# Altium integrated library Coiltronics Passive Transformer.IntLib: 204 symbols (part 3 of 4)
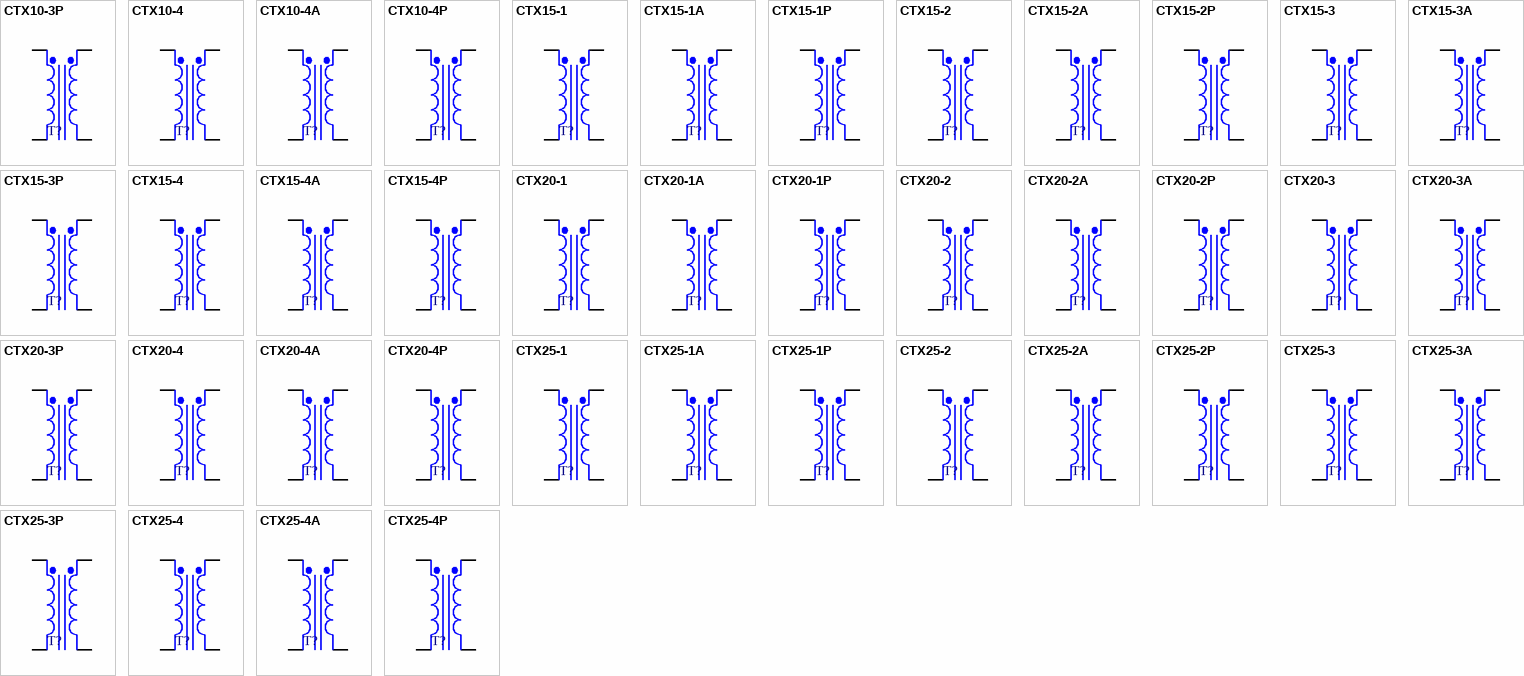
[diagram p7: symbols CTX10-3P to CTX25-4P]

## CTX25-4A
designator T?
Surface Mount 1:1 Transformer, 1.51A RMS Series Current, Octa-Pac Plus; Parallel_OCL: 25.14uH ± 25%; Parallel_I(Sat): 2.65A (Peak); Parallel_I(RMS): 3.02A DC; Parallel_DCR: 0.048 Ohms (Typical @ 20°C); Series_OCL: 100.51uH ± 25%; Series_I(Sat): 1.32uH (Minimum); Series_I(RMS): 1.51A DC; Series_DCR: 0.193 Ohms (Typical @ 20°C); Published: 17-Jul-2002; DatasheetDocument: Dec-2001; PackageDocument: Dec-2001; PackageReference: OPA4; Publisher: Altium Limited; ComponentLink1Description: Manufacturer Link; ComponentLink1URL: http://www.cooperet.com/; ComponentLink2Description: Datasheet; ComponentLink2URL: http://www.cooperet.com/pdfs_html/EconoPacOctaPacOctaPacPlus_Specs.pdf
footprint OPA4 (SM Inductor/Transformer; 4 Leads; Body 11.43 x 11.43 x 6.35 mm (LxWxH))
pins: 1 Pri+, 2 Pri-, 3 Sec-, 4 Sec+

## CTX25-4P
designator T?
Surface Mount 1:1 Transformer, 0.80A DC Series Full Load Current, Econo-Pac; Parallel_OCL: 25.65uH ± 20%; Parallel_L(Full_Load): 17.17uH (Minimum); Parallel_I(Full_Load): 1.60A DC; Parallel_DCR: 0.115 Ohms (Maximum); Series_OCL: 102.60uH ± 20%; Series_L(Full_Load): 68.68uH (Minimum); Series_I(Full_Load): 0.8A DC; Series_DCR: 0.461 Ohms (Maximum); Published: 17-Jul-2002; DatasheetDocument: Jan-2002; PackageDocument: Dec-2001; PackageReference: OPA4; Publisher: Altium Limited; ComponentLink1Description: Manufacturer Link; ComponentLink1URL: http://www.cooperet.com/; ComponentLink2Description: Datasheet; ComponentLink2URL: http://www.cooperet.com/pdfs_html/EconoPacOctaPacOctaPacPlus_Specs.pdf
footprint OPA4 (SM Inductor/Transformer; 4 Leads; Body 11.43 x 11.43 x 6.35 mm (LxWxH))
pins: 1 Pri+, 2 Pri-, 3 Sec-, 4 Sec+

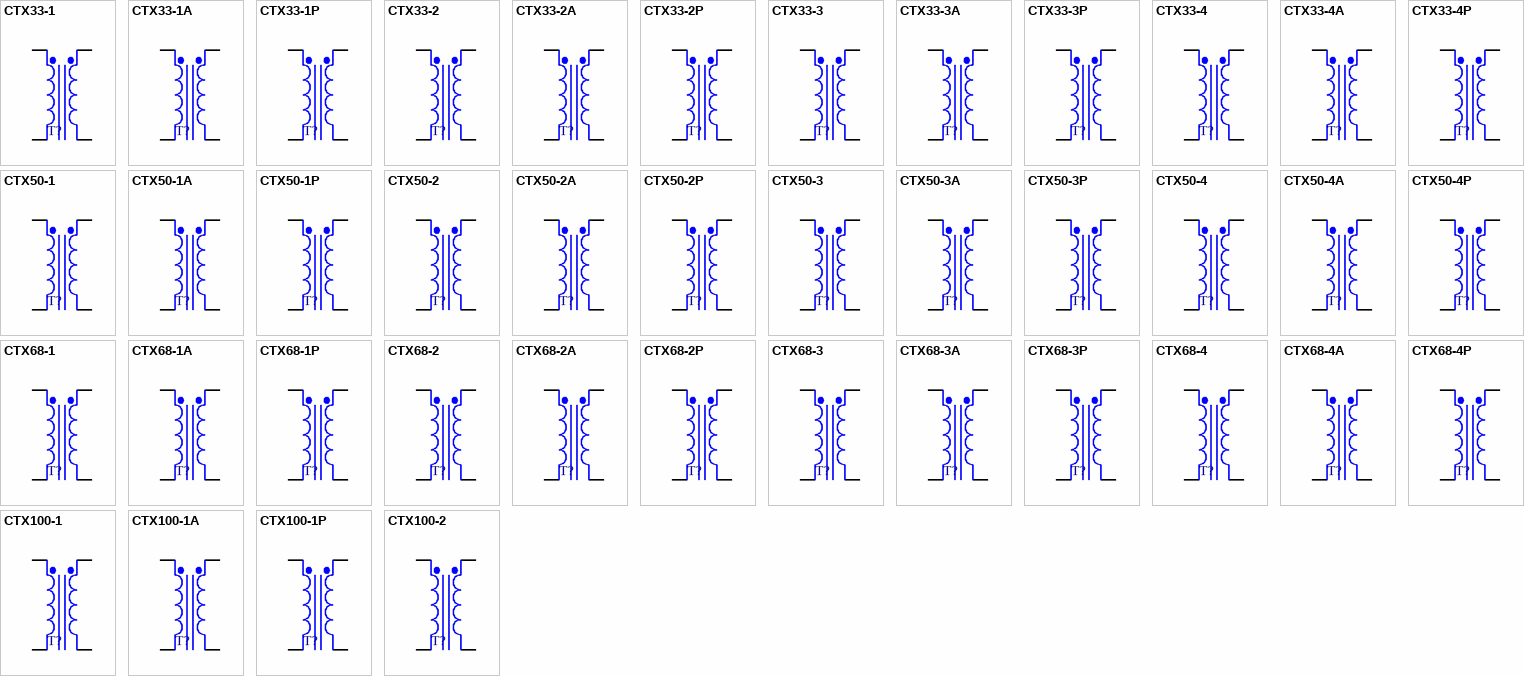
[diagram p3: symbols CTX33-1 to CTX100-2]

## CTX33-1
designator T?
Surface Mount 1:1 Transformer, 0.36A DC Series Full Load Current, Octa-Pac; Parallel_OCL: 32.40uH ± 20%; Parallel_L(Full_Load): 19.84uH (Minimum); Parallel_I(Full_Load): 0.72A DC; Parallel_DCR: 0.293 Ohms (Maximum); Series_OCL: 129.60uH ± 20%; Series_L(Full_Load): 79.37uH (Minimum); Series_DCR: 1.171 Ohms (Maximum); Published: 17-Jul-2002; DatasheetDocument: Jan-2002; PackageDocument: Dec-2001; PackageReference: OPA1; Publisher: Altium Limited; Series_I(Full_Load): 0.36A DC; ComponentLink1Description: Manufacturer Link; ComponentLink1URL: http://www.cooperet.com/; ComponentLink2Description: Datasheet; ComponentLink2URL: http://www.cooperet.com/pdfs_html/EconoPacOctaPacOctaPacPlus_Specs.pdf
footprint OPA1 (SM Inductor/Transformer; 4 Leads; Body 8.89 x 8.89 x 4.19 mm (LxWxH))
pins: 1 Pri+, 2 Pri-, 3 Sec-, 4 Sec+

## CTX33-1A
designator T?
Surface Mount 1:1 Transformer, 0.61A RMS Series Current, Octa-Pac Plus; Parallel_OCL: 34.26uH ± 25%; Parallel_I(Sat): 1.39A (Peak); Parallel_I(RMS): 1.22A DC; Parallel_DCR: 0.249 Ohms (Typical @ 20°C); Series_OCL: 137.10uH ± 25%; Series_I(Sat): 0.69uH (Minimum); Series_I(RMS): 0.61A DC; Series_DCR: 0.995 Ohms (Typical @ 20°C); Published: 17-Jul-2002; DatasheetDocument: Dec-2001; PackageDocument: Dec-2001; PackageReference: OPA1; Publisher: Altium Limited; ComponentLink1Description: Manufacturer Link; ComponentLink1URL: http://www.cooperet.com/; ComponentLink2Description: Datasheet; ComponentLink2URL: http://www.cooperet.com/pdfs_html/EconoPacOctaPacOctaPacPlus_Specs.pdf
footprint OPA1 (SM Inductor/Transformer; 4 Leads; Body 8.89 x 8.89 x 4.19 mm (LxWxH))
pins: 1 Pri+, 2 Pri-, 3 Sec-, 4 Sec+

## CTX33-1P
designator T?
Surface Mount 1:1 Transformer, 0.40A DC Series Full Load Current, Econo-Pac; Parallel_OCL: 32.33uH ± 20%; Parallel_L(Full_Load): 22.27uH (Minimum); Parallel_I(Full_Load): 0.80A DC; Parallel_DCR: 0.25 Ohms (Maximum); Series_OCL: 129.32uH ± 20%; Series_L(Full_Load): 89.06uH (Minimum); Series_I(Full_Load): 0.4A DC; Series_DCR: 1.001 Ohms (Maximum); Published: 17-Jul-2002; DatasheetDocument: Jan-2002; PackageDocument: Dec-2001; PackageReference: OPA1; Publisher: Altium Limited; ComponentLink1Description: Manufacturer Link; ComponentLink1URL: http://www.cooperet.com/; ComponentLink2Description: Datasheet; ComponentLink2URL: http://www.cooperet.com/pdfs_html/EconoPacOctaPacOctaPacPlus_Specs.pdf
footprint OPA1 (SM Inductor/Transformer; 4 Leads; Body 8.89 x 8.89 x 4.19 mm (LxWxH))
pins: 1 Pri+, 2 Pri-, 3 Sec-, 4 Sec+

## CTX33-2
designator T?
Surface Mount 1:1 Transformer, 0.70A DC Series Full Load Current, Octa-Pac; Parallel_OCL: 31.77uH ± 20%; Parallel_L(Full_Load): 15.9uH (Minimum); Parallel_I(Full_Load): 1.40A DC; Parallel_DCR: 0.105 Ohms (Maximum); Series_OCL: 127.09uH ± 20%; Series_L(Full_Load): 63.59uH (Minimum); Series_I(Full_Load): 0.7A DC; Series_DCR: 0.42 Ohms (Maximum); Published: 17-Jul-2002; DatasheetDocument: Jan-2002; PackageDocument: Dec-2001; PackageReference: OPA2; Publisher: Altium Limited; ComponentLink1Description: Manufacturer Link; ComponentLink1URL: http://www.cooperet.com/; ComponentLink2Description: Datasheet; ComponentLink2URL: http://www.cooperet.com/pdfs_html/EconoPacOctaPacOctaPacPlus_Specs.pdf
footprint OPA2 (SM Inductor/Transformer; 4 Leads; Body 8.89 x 8.89 x 5.97 mm (LxWxH))
pins: 1 Pri+, 2 Pri-, 3 Sec-, 4 Sec+

## CTX33-2A
designator T?
Surface Mount 1:1 Transformer, 0.78A RMS Series Current, Octa-Pac Plus; Parallel_OCL: 34.84uH ± 25%; Parallel_I(Sat): 1.79A (Peak); Parallel_I(RMS): 1.56A DC; Parallel_DCR: 0.162 Ohms (Typical @ 20°C); Series_OCL: 139.40uH ± 25%; Series_I(Sat): 0.89uH (Minimum); Series_I(RMS): 0.78A DC; Series_DCR: 0.649 Ohms (Typical @ 20°C); Published: 17-Jul-2002; DatasheetDocument: Dec-2001; PackageDocument: Dec-2001; PackageReference: OPA2; Publisher: Altium Limited; ComponentLink1Description: Manufacturer Link; ComponentLink1URL: http://www.cooperet.com/; ComponentLink2Description: Datasheet; ComponentLink2URL: http://www.cooperet.com/pdfs_html/EconoPacOctaPacOctaPacPlus_Specs.pdf
footprint OPA2 (SM Inductor/Transformer; 4 Leads; Body 8.89 x 8.89 x 5.97 mm (LxWxH))
pins: 1 Pri+, 2 Pri-, 3 Sec-, 4 Sec+

## CTX33-2P
designator T?
Surface Mount 1:1 Transformer, 0.65A DC Series Full Load Current, Econo-Pac; Parallel_OCL: 32.67uH ± 20%; Parallel_L(Full_Load): 21.29uH (Minimum); Parallel_I(Full_Load): 1.30A DC; Parallel_DCR: 0.126 Ohms (Maximum); Series_OCL: 130.7uH ± 20%; Series_L(Full_Load): 85.17uH (Minimum); Series_DCR: 0.503 Ohms (Maximum); Published: 17-Jul-2002; DatasheetDocument: Jan-2002; PackageDocument: Dec-2001; PackageReference: OPA2; Publisher: Altium Limited; Series_I(Full_Load): 0.65A DC; ComponentLink1Description: Manufacturer Link; ComponentLink1URL: http://www.cooperet.com/; ComponentLink2Description: Datasheet; ComponentLink2URL: http://www.cooperet.com/pdfs_html/EconoPacOctaPacOctaPacPlus_Specs.pdf
footprint OPA2 (SM Inductor/Transformer; 4 Leads; Body 8.89 x 8.89 x 5.97 mm (LxWxH))
pins: 1 Pri+, 2 Pri-, 3 Sec-, 4 Sec+

## CTX33-3
designator T?
Surface Mount 1:1 Transformer, 0.48A DC Series Full Load Current, Octa-Pac; Parallel_OCL: 32.86uH ± 20%; Parallel_L(Full_Load): 19.69uH (Minimum); Parallel_I(Full_Load): 0.96A DC; Parallel_DCR: 0.083 Ohms (Maximum); Series_OCL: 131.42uH ± 20%; Series_L(Full_Load): 78.77uH (Minimum); Series_DCR: 0.331 Ohms (Maximum); Published: 17-Jul-2002; DatasheetDocument: Jan-2002; PackageDocument: Dec-2001; PackageReference: OPA3; Publisher: Altium Limited; Series_I(Full_Load): 0.48A DC; ComponentLink1Description: Manufacturer Link; ComponentLink1URL: http://www.cooperet.com/; ComponentLink2Description: Datasheet; ComponentLink2URL: http://www.cooperet.com/pdfs_html/EconoPacOctaPacOctaPacPlus_Specs.pdf
footprint OPA3 (SM Inductor/Transformer; 4 Leads; Body 11.43 x 11.43 x 4.83 mm (LxWxH))
pins: 1 Pri+, 2 Pri-, 3 Sec-, 4 Sec+

## CTX33-3A
designator T?
Surface Mount 1:1 Transformer, 0.96A RMS Series Current, Octa-Pac Plus; Parallel_OCL: 33.71uH ± 25%; Parallel_I(Sat): 1.61A (Peak); Parallel_I(RMS): 1.93A DC; Parallel_DCR: 0.112 Ohms (Typical @ 20°C); Series_OCL: 134.80uH ± 25%; Series_I(Sat): 0.80uH (Minimum); Series_I(RMS): 0.96A DC; Series_DCR: 0.449 Ohms (Typical @ 20°C); Published: 17-Jul-2002; DatasheetDocument: Dec-2001; PackageDocument: Dec-2001; PackageReference: OPA3; Publisher: Altium Limited; ComponentLink1Description: Manufacturer Link; ComponentLink1URL: http://www.cooperet.com/; ComponentLink2Description: Datasheet; ComponentLink2URL: http://www.cooperet.com/pdfs_html/EconoPacOctaPacOctaPacPlus_Specs.pdf
footprint OPA3 (SM Inductor/Transformer; 4 Leads; Body 11.43 x 11.43 x 4.83 mm (LxWxH))
pins: 1 Pri+, 2 Pri-, 3 Sec-, 4 Sec+

## CTX33-3P
designator T?
Surface Mount 1:1 Transformer, 0.65A DC Series Full Load Current, Econo-Pac; Parallel_OCL: 32.63uH ± 20%; Parallel_L(Full_Load): 20.32uH (Minimum); Parallel_I(Full_Load): 1.30A DC; Parallel_DCR: 0.146 Ohms (Maximum); Series_OCL: 130.54uH ± 20%; Series_L(Full_Load): 81.3uH (Minimum); Series_DCR: 0.571 Ohms (Maximum); Published: 17-Jul-2002; DatasheetDocument: Jan-2002; PackageDocument: Dec-2001; PackageReference: OPA3; Publisher: Altium Limited; Series_I(Full_Load): 0.65A DC; ComponentLink1Description: Manufacturer Link; ComponentLink1URL: http://www.cooperet.com/; ComponentLink2Description: Datasheet; ComponentLink2URL: http://www.cooperet.com/pdfs_html/EconoPacOctaPacOctaPacPlus_Specs.pdf
footprint OPA3 (SM Inductor/Transformer; 4 Leads; Body 11.43 x 11.43 x 4.83 mm (LxWxH))
pins: 1 Pri+, 2 Pri-, 3 Sec-, 4 Sec+

## CTX33-4
designator T?
Surface Mount 1:1 Transformer, 0.90A DC Series Full Load Current, Octa-Pac; Parallel_OCL: 33.12uH ± 20%; Parallel_L(Full_Load): 16.82uH (Minimum); Parallel_I(Full_Load): 1.80A DC; Parallel_DCR: 0.072 Ohms (Maximum); Series_OCL: 132.50uH ± 20%; Series_L(Full_Load): 67.27uH (Minimum); Series_I(Full_Load): 0.9A DC; Series_DCR: 0.287 Ohms (Maximum); Published: 17-Jul-2002; DatasheetDocument: Jan-2002; PackageDocument: Dec-2001; PackageReference: OPA4; Publisher: Altium Limited; ComponentLink1Description: Manufacturer Link; ComponentLink1URL: http://www.cooperet.com/; ComponentLink2Description: Datasheet; ComponentLink2URL: http://www.cooperet.com/pdfs_html/EconoPacOctaPacOctaPacPlus_Specs.pdf
footprint OPA4 (SM Inductor/Transformer; 4 Leads; Body 11.43 x 11.43 x 6.35 mm (LxWxH))
pins: 1 Pri+, 2 Pri-, 3 Sec-, 4 Sec+

## CTX33-4A
designator T?
Surface Mount 1:1 Transformer, 1.25A RMS Series Current, Octa-Pac Plus; Parallel_OCL: 34.80uH ± 25%; Parallel_I(Sat): 2.25A (Peak); Parallel_I(RMS): 2.49A DC; Parallel_DCR: 0.071 Ohms (Typical @ 20°C); Series_OCL: 139.20uH ± 25%; Series_I(Sat): 1.13uH (Minimum); Series_I(RMS): 1.25A DC; Series_DCR: 0.283 Ohms (Typical @ 20°C); Published: 17-Jul-2002; DatasheetDocument: Dec-2001; PackageDocument: Dec-2001; PackageReference: OPA4; Publisher: Altium Limited; ComponentLink1Description: Manufacturer Link; ComponentLink1URL: http://www.cooperet.com/; ComponentLink2Description: Datasheet; ComponentLink2URL: http://www.cooperet.com/pdfs_html/EconoPacOctaPacOctaPacPlus_Specs.pdf
footprint OPA4 (SM Inductor/Transformer; 4 Leads; Body 11.43 x 11.43 x 6.35 mm (LxWxH))
pins: 1 Pri+, 2 Pri-, 3 Sec-, 4 Sec+

## CTX33-4P
designator T?
Surface Mount 1:1 Transformer, 0.65A DC Series Full Load Current, Econo-Pac; Parallel_OCL: 33.21uH ± 20%; Parallel_L(Full_Load): 22.93uH (Minimum); Parallel_I(Full_Load): 1.30A DC; Parallel_DCR: 0.166 Ohms (Maximum); Series_OCL: 132.86uH ± 20%; Series_L(Full_Load): 91.72uH (Minimum); Series_DCR: 0.662 Ohms (Maximum); Published: 17-Jul-2002; DatasheetDocument: Jan-2002; PackageDocument: Dec-2001; PackageReference: OPA4; Publisher: Altium Limited; Series_I(Full_Load): 0.65A DC; ComponentLink1Description: Manufacturer Link; ComponentLink1URL: http://www.cooperet.com/; ComponentLink2Description: Datasheet; ComponentLink2URL: http://www.cooperet.com/pdfs_html/EconoPacOctaPacOctaPacPlus_Specs.pdf
footprint OPA4 (SM Inductor/Transformer; 4 Leads; Body 11.43 x 11.43 x 6.35 mm (LxWxH))
pins: 1 Pri+, 2 Pri-, 3 Sec-, 4 Sec+

## CTX50-1
designator T?
Surface Mount 1:1 Transformer, 0.32A DC Series Full Load Current, Octa-Pac; Parallel_OCL: 50.63uH ± 20%; Parallel_L(Full_Load): 29.34uH (Minimum); Parallel_I(Full_Load): 0.64A DC; Parallel_DCR: 0.365 Ohms (Maximum); Series_OCL: 202.50uH ± 20%; Series_L(Full_Load): 117.38uH (Minimum); Series_DCR: 1.461 Ohms (Maximum); Published: 17-Jul-2002; DatasheetDocument: Jan-2002; PackageDocument: Dec-2001; PackageReference: OPA1; Publisher: Altium Limited; Series_I(Full_Load): 0.32A DC; ComponentLink1Description: Manufacturer Link; ComponentLink1URL: http://www.cooperet.com/; ComponentLink2Description: Datasheet; ComponentLink2URL: http://www.cooperet.com/pdfs_html/EconoPacOctaPacOctaPacPlus_Specs.pdf
footprint OPA1 (SM Inductor/Transformer; 4 Leads; Body 8.89 x 8.89 x 4.19 mm (LxWxH))
pins: 1 Pri+, 2 Pri-, 3 Sec-, 4 Sec+

## CTX50-1A
designator T?
Surface Mount 1:1 Transformer, 0.49A RMS Series Current, Octa-Pac Plus; Parallel_OCL: 51.18uH ± 25%; Parallel_I(Sat): 1.14A (Peak); Parallel_I(RMS): 0.99A DC; Parallel_DCR: 0.381 Ohms (Typical @ 20°C); Series_OCL: 204.70uH ± 25%; Series_I(Sat): 0.57uH (Minimum); Series_I(RMS): 0.49A DC; Series_DCR: 1.524 Ohms (Typical @ 20°C); Published: 17-Jul-2002; DatasheetDocument: Dec-2001; PackageDocument: Dec-2001; PackageReference: OPA1; Publisher: Altium Limited; ComponentLink1Description: Manufacturer Link; ComponentLink1URL: http://www.cooperet.com/; ComponentLink2Description: Datasheet; ComponentLink2URL: http://www.cooperet.com/pdfs_html/EconoPacOctaPacOctaPacPlus_Specs.pdf
footprint OPA1 (SM Inductor/Transformer; 4 Leads; Body 8.89 x 8.89 x 4.19 mm (LxWxH))
pins: 1 Pri+, 2 Pri-, 3 Sec-, 4 Sec+

## CTX50-1P
designator T?
Surface Mount 1:1 Transformer, 0.35A DC Series Full Load Current, Econo-Pac; Parallel_OCL: 50.52uH ± 20%; Parallel_L(Full_Load): 33.57uH (Minimum); Parallel_I(Full_Load): 0.70A DC; Parallel_DCR: 0.316 Ohms (Maximum); Series_OCL: 202.07uH ± 20%; Series_L(Full_Load): 134.27uH (Minimum); Series_DCR: 1.263 Ohms (Maximum); Published: 17-Jul-2002; DatasheetDocument: Jan-2002; PackageDocument: Dec-2001; PackageReference: OPA1; Publisher: Altium Limited; Series_I(Full_Load): 0.35A DC; ComponentLink1Description: Manufacturer Link; ComponentLink1URL: http://www.cooperet.com/; ComponentLink2Description: Datasheet; ComponentLink2URL: http://www.cooperet.com/pdfs_html/EconoPacOctaPacOctaPacPlus_Specs.pdf
footprint OPA1 (SM Inductor/Transformer; 4 Leads; Body 8.89 x 8.89 x 4.19 mm (LxWxH))
pins: 1 Pri+, 2 Pri-, 3 Sec-, 4 Sec+

## CTX50-2
designator T?
Surface Mount 1:1 Transformer, 0.46A DC Series Full Load Current, Octa-Pac; Parallel_OCL: 51.18uH ± 20%; Parallel_L(Full_Load): 28.79uH (Minimum); Parallel_I(Full_Load): 0.92A DC; Parallel_DCR: 0.21 Ohms (Maximum); Series_OCL: 204.73uH ± 20%; Series_L(Full_Load): 115.16uH (Minimum); Series_DCR: 0.839 Ohms (Maximum); Published: 17-Jul-2002; DatasheetDocument: Jan-2002; PackageDocument: Dec-2001; PackageReference: OPA2; Publisher: Altium Limited; Series_I(Full_Load): 0.46A DC; ComponentLink1Description: Manufacturer Link; ComponentLink1URL: http://www.cooperet.com/; ComponentLink2Description: Datasheet; ComponentLink2URL: http://www.cooperet.com/pdfs_html/EconoPacOctaPacOctaPacPlus_Specs.pdf
footprint OPA2 (SM Inductor/Transformer; 4 Leads; Body 8.89 x 8.89 x 5.97 mm (LxWxH))
pins: 1 Pri+, 2 Pri-, 3 Sec-, 4 Sec+

## CTX50-2A
designator T?
Surface Mount 1:1 Transformer, 0.64A RMS Series Current, Octa-Pac Plus; Parallel_OCL: 49.38uH ± 25%; Parallel_I(Sat): 1.50A (Peak); Parallel_I(RMS): 1.28A DC; Parallel_DCR: 0.240 Ohms (Typical @ 20°C); Series_OCL: 197.50uH ± 25%; Series_I(Sat): 0.75uH (Minimum); Series_I(RMS): 0.64A DC; Series_DCR: 0.961 Ohms (Typical @ 20°C); Published: 17-Jul-2002; DatasheetDocument: Dec-2001; PackageDocument: Dec-2001; PackageReference: OPA2; Publisher: Altium Limited; ComponentLink1Description: Manufacturer Link; ComponentLink1URL: http://www.cooperet.com/; ComponentLink2Description: Datasheet; ComponentLink2URL: http://www.cooperet.com/pdfs_html/EconoPacOctaPacOctaPacPlus_Specs.pdf
footprint OPA2 (SM Inductor/Transformer; 4 Leads; Body 8.89 x 8.89 x 5.97 mm (LxWxH))
pins: 1 Pri+, 2 Pri-, 3 Sec-, 4 Sec+

## CTX50-2P
designator T?
Surface Mount 1:1 Transformer, 0.41A DC Series Full Load Current, Econo-Pac; Parallel_OCL: 49.10uH ± 20%; Parallel_L(Full_Load): 35.31uH (Minimum); Parallel_I(Full_Load): 0.82A DC; Parallel_DCR: 0.305 Ohms (Maximum); Series_OCL: 196.38uH ± 20%; Series_L(Full_Load): 141.24uH (Minimum); Series_DCR: 1.221 Ohms (Maximum); Published: 17-Jul-2002; DatasheetDocument: Jan-2002; PackageDocument: Dec-2001; PackageReference: OPA2; Publisher: Altium Limited; Series_I(Full_Load): 0.41A DC; ComponentLink1Description: Manufacturer Link; ComponentLink1URL: http://www.cooperet.com/; ComponentLink2Description: Datasheet; ComponentLink2URL: http://www.cooperet.com/pdfs_html/EconoPacOctaPacOctaPacPlus_Specs.pdf
footprint OPA2 (SM Inductor/Transformer; 4 Leads; Body 8.89 x 8.89 x 5.97 mm (LxWxH))
pins: 1 Pri+, 2 Pri-, 3 Sec-, 4 Sec+

## CTX50-3
designator T?
Surface Mount 1:1 Transformer, 0.47A DC Series Full Load Current, Octa-Pac; Parallel_OCL: 50.78uH ± 20%; Parallel_L(Full_Load): 27.18uH (Minimum); Parallel_I(Full_Load): 0.94A DC; Parallel_DCR: 0.239 Ohms (Maximum); Series_OCL: 203.14uH ± 20%; Series_L(Full_Load): 108.71uH (Minimum); Series_DCR: 0.956 Ohms (Maximum); Published: 17-Jul-2002; DatasheetDocument: Jan-2002; PackageDocument: Dec-2001; PackageReference: OPA3; Publisher: Altium Limited; Series_I(Full_Load): 0.47A DC; ComponentLink1Description: Manufacturer Link; ComponentLink1URL: http://www.cooperet.com/; ComponentLink2Description: Datasheet; ComponentLink2URL: http://www.cooperet.com/pdfs_html/EconoPacOctaPacOctaPacPlus_Specs.pdf
footprint OPA3 (SM Inductor/Transformer; 4 Leads; Body 11.43 x 11.43 x 4.83 mm (LxWxH))
pins: 1 Pri+, 2 Pri-, 3 Sec-, 4 Sec+

## CTX50-3A
designator T?
Surface Mount 1:1 Transformer, 0.78A RMS Series Current, Octa-Pac Plus; Parallel_OCL: 49.71uH ± 25%; Parallel_I(Sat): 1.32A (Peak); Parallel_I(RMS): 1.56A DC; Parallel_DCR: 0.171 Ohms (Typical @ 20°C); Series_OCL: 198.80uH ± 25%; Series_I(Sat): 0.66uH (Minimum); Series_I(RMS): 0.78A DC; Series_DCR: 0.686 Ohms (Typical @ 20°C); Published: 17-Jul-2002; DatasheetDocument: Dec-2001; PackageDocument: Dec-2001; PackageReference: OPA3; Publisher: Altium Limited; ComponentLink1Description: Manufacturer Link; ComponentLink1URL: http://www.cooperet.com/; ComponentLink2Description: Datasheet; ComponentLink2URL: http://www.cooperet.com/pdfs_html/EconoPacOctaPacOctaPacPlus_Specs.pdf
footprint OPA3 (SM Inductor/Transformer; 4 Leads; Body 11.43 x 11.43 x 4.83 mm (LxWxH))
pins: 1 Pri+, 2 Pri-, 3 Sec-, 4 Sec+

## CTX50-3P
designator T?
Surface Mount 1:1 Transformer, 0.46A DC Series Full Load Current, Econo-Pac; Parallel_OCL: 50.02uH ± 20%; Parallel_L(Full_Load): 33.06uH (Minimum); Parallel_I(Full_Load): 0.92A DC; Parallel_DCR: 0.277 Ohms (Maximum); Series_OCL: 200.10uH ± 20%; Series_L(Full_Load): 132.24uH (Minimum); Series_DCR: 1.108 Ohms (Maximum); Published: 17-Jul-2002; DatasheetDocument: Jan-2002; PackageDocument: Dec-2001; PackageReference: OPA3; Publisher: Altium Limited; Series_I(Full_Load): 0.46A DC; ComponentLink1Description: Manufacturer Link; ComponentLink1URL: http://www.cooperet.com/; ComponentLink2Description: Datasheet; ComponentLink2URL: http://www.cooperet.com/pdfs_html/EconoPacOctaPacOctaPacPlus_Specs.pdf
footprint OPA3 (SM Inductor/Transformer; 4 Leads; Body 11.43 x 11.43 x 4.83 mm (LxWxH))
pins: 1 Pri+, 2 Pri-, 3 Sec-, 4 Sec+

## CTX50-4
designator T?
Surface Mount 1:1 Transformer, 0.75A DC Series Full Load Current, Octa-Pac; Parallel_OCL: 50.18uH ± 20%; Parallel_L(Full_Load): 25.03uH (Minimum); Parallel_I(Full_Load): 1.50A DC; Parallel_DCR: 0.111 Ohms (Maximum); Series_OCL: 200.70uH ± 20%; Series_L(Full_Load): 100.11uH (Minimum); Series_DCR: 0.443 Ohms (Maximum); Published: 17-Jul-2002; DatasheetDocument: Jan-2002; PackageDocument: Dec-2001; PackageReference: OPA4; Publisher: Altium Limited; Series_I(Full_Load): 0.75A DC; ComponentLink1Description: Manufacturer Link; ComponentLink1URL: http://www.cooperet.com/; ComponentLink2Description: Datasheet; ComponentLink2URL: http://www.cooperet.com/pdfs_html/EconoPacOctaPacOctaPacPlus_Specs.pdf
footprint OPA4 (SM Inductor/Transformer; 4 Leads; Body 11.43 x 11.43 x 6.35 mm (LxWxH))
pins: 1 Pri+, 2 Pri-, 3 Sec-, 4 Sec+

## CTX50-4A
designator T?
Surface Mount 1:1 Transformer, 1.03A RMS Series Current, Octa-Pac Plus; Parallel_OCL: 50.11uH ± 25%; Parallel_I(Sat): 1.88A (Peak); Parallel_I(RMS): 2.05A DC; Parallel_DCR: 0.104 Ohms (Typical @ 20°C); Series_OCL: 200.40uH ± 25%; Series_I(Sat): 0.94uH (Minimum); Series_I(RMS): 1.03A DC; Series_DCR: 0.418 Ohms (Typical @ 20°C); Published: 17-Jul-2002; DatasheetDocument: Dec-2001; PackageDocument: Dec-2001; PackageReference: OPA4; Publisher: Altium Limited; ComponentLink1Description: Manufacturer Link; ComponentLink1URL: http://www.cooperet.com/; ComponentLink2Description: Datasheet; ComponentLink2URL: http://www.cooperet.com/pdfs_html/EconoPacOctaPacOctaPacPlus_Specs.pdf
footprint OPA4 (SM Inductor/Transformer; 4 Leads; Body 11.43 x 11.43 x 6.35 mm (LxWxH))
pins: 1 Pri+, 2 Pri-, 3 Sec-, 4 Sec+

## CTX50-4P
designator T?
Surface Mount 1:1 Transformer, 0.60A DC Series Full Load Current, Econo-Pac; Parallel_OCL: 48.80uH ± 20%; Parallel_L(Full_Load): 32.21uH (Minimum); Parallel_I(Full_Load): 1.20A DC; Parallel_DCR: 0.201 Ohms (Maximum); Series_OCL: 195.20uH ± 20%; Series_L(Full_Load): 128.83uH (Minimum); Series_I(Full_Load): 0.6A DC; Series_DCR: 0.805 Ohms (Maximum); Published: 17-Jul-2002; DatasheetDocument: Jan-2002; PackageDocument: Dec-2001; PackageReference: OPA4; Publisher: Altium Limited; ComponentLink1Description: Manufacturer Link; ComponentLink1URL: http://www.cooperet.com/; ComponentLink2Description: Datasheet; ComponentLink2URL: http://www.cooperet.com/pdfs_html/EconoPacOctaPacOctaPacPlus_Specs.pdf
footprint OPA4 (SM Inductor/Transformer; 4 Leads; Body 11.43 x 11.43 x 6.35 mm (LxWxH))
pins: 1 Pri+, 2 Pri-, 3 Sec-, 4 Sec+

## CTX68-1
designator T?
Surface Mount 1:1 Transformer, 0.27A DC Series Full Load Current, Octa-Pac; Parallel_OCL: 67.60uH ± 20%; Parallel_L(Full_Load): 39.73uH (Minimum); Parallel_I(Full_Load): 0.54A DC; Parallel_DCR: 0.516 Ohms (Maximum); Series_OCL: 270.40uH ± 20%; Series_L(Full_Load): 158.92uH (Minimum); Series_DCR: 2.064 Ohms (Maximum); Published: 17-Jul-2002; DatasheetDocument: Jan-2002; PackageDocument: Dec-2001; PackageReference: OPA1; Publisher: Altium Limited; Series_I(Full_Load): 0.27A DC; ComponentLink1Description: Manufacturer Link; ComponentLink1URL: http://www.cooperet.com/; ComponentLink2Description: Datasheet; ComponentLink2URL: http://www.cooperet.com/pdfs_html/EconoPacOctaPacOctaPacPlus_Specs.pdf
footprint OPA1 (SM Inductor/Transformer; 4 Leads; Body 8.89 x 8.89 x 4.19 mm (LxWxH))
pins: 1 Pri+, 2 Pri-, 3 Sec-, 4 Sec+

## CTX68-1A
designator T?
Surface Mount 1:1 Transformer, 0.46A RMS Series Current, Octa-Pac Plus; Parallel_OCL: 67.87uH ± 25%; Parallel_I(Sat): 0.99A (Peak); Parallel_I(RMS): 0.92A DC; Parallel_DCR: 0.437 Ohms (Typical @ 20°C); Series_OCL: 271.50uH ± 25%; Series_I(Sat): 0.49uH (Minimum); Series_I(RMS): 0.46A DC; Series_DCR: 1.749 Ohms (Typical @ 20°C); Published: 17-Jul-2002; DatasheetDocument: Dec-2001; PackageDocument: Dec-2001; PackageReference: OPA1; Publisher: Altium Limited; ComponentLink1Description: Manufacturer Link; ComponentLink1URL: http://www.cooperet.com/; ComponentLink2Description: Datasheet; ComponentLink2URL: http://www.cooperet.com/pdfs_html/EconoPacOctaPacOctaPacPlus_Specs.pdf
footprint OPA1 (SM Inductor/Transformer; 4 Leads; Body 8.89 x 8.89 x 4.19 mm (LxWxH))
pins: 1 Pri+, 2 Pri-, 3 Sec-, 4 Sec+

## CTX68-1P
designator T?
Surface Mount 1:1 Transformer, 0.33A DC Series Full Load Current, Econo-Pac; Parallel_OCL: 68.40uH ± 20%; Parallel_L(Full_Load): 43.65uH (Minimum); Parallel_I(Full_Load): 0.66A DC; Parallel_DCR: 0.373 Ohms (Maximum); Series_OCL: 273.61uH ± 20%; Series_L(Full_Load): 174.61uH (Minimum); Series_DCR: 1.49 Ohms (Maximum); Published: 17-Jul-2002; DatasheetDocument: Jan-2002; PackageDocument: Dec-2001; PackageReference: OPA1; Publisher: Altium Limited; Series_I(Full_Load): 0.33A DC; ComponentLink1Description: Manufacturer Link; ComponentLink1URL: http://www.cooperet.com/; ComponentLink2Description: Datasheet; ComponentLink2URL: http://www.cooperet.com/pdfs_html/EconoPacOctaPacOctaPacPlus_Specs.pdf
footprint OPA1 (SM Inductor/Transformer; 4 Leads; Body 8.89 x 8.89 x 4.19 mm (LxWxH))
pins: 1 Pri+, 2 Pri-, 3 Sec-, 4 Sec+

## CTX68-2
designator T?
Surface Mount 1:1 Transformer, 0.39A DC Series Full Load Current, Octa-Pac; Parallel_OCL: 67.87uH ± 20%; Parallel_L(Full_Load): 38.71uH (Minimum); Parallel_I(Full_Load): 0.78A DC; Parallel_DCR: 0.303 Ohms (Maximum); Series_OCL: 271.47uH ± 20%; Series_L(Full_Load): 154.83uH (Minimum); Series_DCR: 1.214 Ohms (Maximum); Published: 17-Jul-2002; DatasheetDocument: Jan-2002; PackageDocument: Dec-2001; PackageReference: OPA2; Publisher: Altium Limited; Series_I(Full_Load): 0.39A DC; ComponentLink1Description: Manufacturer Link; ComponentLink1URL: http://www.cooperet.com/; ComponentLink2Description: Datasheet; ComponentLink2URL: http://www.cooperet.com/pdfs_html/EconoPacOctaPacOctaPacPlus_Specs.pdf
footprint OPA2 (SM Inductor/Transformer; 4 Leads; Body 8.89 x 8.89 x 5.97 mm (LxWxH))
pins: 1 Pri+, 2 Pri-, 3 Sec-, 4 Sec+

## CTX68-2A
designator T?
Surface Mount 1:1 Transformer, 0.54A RMS Series Current, Octa-Pac Plus; Parallel_OCL: 66.44uH ± 25%; Parallel_I(Sat): 1.29A (Peak); Parallel_I(RMS): 1.07A DC; Parallel_DCR: 0.342 Ohms (Typical @ 20°C); Series_OCL: 265.80uH ± 25%; Series_I(Sat): 0.65uH (Minimum); Series_I(RMS): 0.54A DC; Series_DCR: 1.367 Ohms (Typical @ 20°C); Published: 17-Jul-2002; DatasheetDocument: Dec-2001; PackageDocument: Dec-2001; PackageReference: OPA2; Publisher: Altium Limited; ComponentLink1Description: Manufacturer Link; ComponentLink1URL: http://www.cooperet.com/; ComponentLink2Description: Datasheet; ComponentLink2URL: http://www.cooperet.com/pdfs_html/EconoPacOctaPacOctaPacPlus_Specs.pdf
footprint OPA2 (SM Inductor/Transformer; 4 Leads; Body 8.89 x 8.89 x 5.97 mm (LxWxH))
pins: 1 Pri+, 2 Pri-, 3 Sec-, 4 Sec+

## CTX68-2P
designator T?
Surface Mount 1:1 Transformer, 0.38A DC Series Full Load Current, Econo-Pac; Parallel_OCL: 68.85uH ± 20%; Parallel_L(Full_Load): 47.93uH (Minimum); Parallel_I(Full_Load): 0.76A DC; Parallel_DCR: 0.362 Ohms (Maximum); Series_OCL: 275.40uH ± 20%; Series_L(Full_Load): 191.71uH (Minimum); Series_DCR: 1.445 Ohms (Maximum); Published: 17-Jul-2002; DatasheetDocument: Jan-2002; PackageDocument: Dec-2001; PackageReference: OPA2; Publisher: Altium Limited; Series_I(Full_Load): 0.38A DC; ComponentLink1Description: Manufacturer Link; ComponentLink1URL: http://www.cooperet.com/; ComponentLink2Description: Datasheet; ComponentLink2URL: http://www.cooperet.com/pdfs_html/EconoPacOctaPacOctaPacPlus_Specs.pdf
footprint OPA2 (SM Inductor/Transformer; 4 Leads; Body 8.89 x 8.89 x 5.97 mm (LxWxH))
pins: 1 Pri+, 2 Pri-, 3 Sec-, 4 Sec+

## CTX68-3
designator T?
Surface Mount 1:1 Transformer, 0.40A DC Series Full Load Current, Octa-Pac; Parallel_OCL: 67.42uH ± 20%; Parallel_L(Full_Load): 36.53uH (Minimum); Parallel_I(Full_Load): 0.80A DC; Parallel_DCR: 0.277 Ohms (Maximum); Series_OCL: 269.66uH ± 20%; Series_L(Full_Load): 146.11uH (Minimum); Series_I(Full_Load): 0.4A DC; Series_DCR: 1.109 Ohms (Maximum); Published: 17-Jul-2002; DatasheetDocument: Jan-2002; PackageDocument: Dec-2001; PackageReference: OPA3; Publisher: Altium Limited; ComponentLink1Description: Manufacturer Link; ComponentLink1URL: http://www.cooperet.com/; ComponentLink2Description: Datasheet; ComponentLink2URL: http://www.cooperet.com/pdfs_html/EconoPacOctaPacOctaPacPlus_Specs.pdf
footprint OPA3 (SM Inductor/Transformer; 4 Leads; Body 11.43 x 11.43 x 4.83 mm (LxWxH))
pins: 1 Pri+, 2 Pri-, 3 Sec-, 4 Sec+

## CTX68-3A
designator T?
Surface Mount 1:1 Transformer, 0.64A RMS Series Current, Octa-Pac Plus; Parallel_OCL: 68.80uH ± 25%; Parallel_I(Sat): 1.13A (Peak); Parallel_I(RMS): 1.28A DC; Parallel_DCR: 0.253 Ohms (Typical @ 20°C); Series_OCL: 275.20uH ± 25%; Series_I(Sat): 0.56uH (Minimum); Series_I(RMS): 0.64A DC; Series_DCR: 1.013 Ohms (Typical @ 20°C); Published: 17-Jul-2002; DatasheetDocument: Dec-2001; PackageDocument: Dec-2001; PackageReference: OPA3; Publisher: Altium Limited; ComponentLink1Description: Manufacturer Link; ComponentLink1URL: http://www.cooperet.com/; ComponentLink2Description: Datasheet; ComponentLink2URL: http://www.cooperet.com/pdfs_html/EconoPacOctaPacOctaPacPlus_Specs.pdf
footprint OPA3 (SM Inductor/Transformer; 4 Leads; Body 11.43 x 11.43 x 4.83 mm (LxWxH))
pins: 1 Pri+, 2 Pri-, 3 Sec-, 4 Sec+

## CTX68-3P
designator T?
Surface Mount 1:1 Transformer, 0.42A DC Series Full Load Current, Econo-Pac; Parallel_OCL: 68.84uH ± 20%; Parallel_L(Full_Load): 44.15uH (Minimum); Parallel_I(Full_Load): 0.84A DC; Parallel_DCR: 0.328 Ohms (Maximum); Series_OCL: 275.35uH ± 20%; Series_L(Full_Load): 176.61uH (Minimum); Series_DCR: 1.312 Ohms (Maximum); Published: 17-Jul-2002; DatasheetDocument: Jan-2002; PackageDocument: Dec-2001; PackageReference: OPA3; Publisher: Altium Limited; Series_I(Full_Load): 0.42A DC; ComponentLink1Description: Manufacturer Link; ComponentLink1URL: http://www.cooperet.com/; ComponentLink2Description: Datasheet; ComponentLink2URL: http://www.cooperet.com/pdfs_html/EconoPacOctaPacOctaPacPlus_Specs.pdf
footprint OPA3 (SM Inductor/Transformer; 4 Leads; Body 11.43 x 11.43 x 4.83 mm (LxWxH))
pins: 1 Pri+, 2 Pri-, 3 Sec-, 4 Sec+

## CTX68-4
designator T?
Surface Mount 1:1 Transformer, 0.60A DC Series Full Load Current, Octa-Pac; Parallel_OCL: 67.08uH ± 20%; Parallel_L(Full_Load): 35.29uH (Minimum); Parallel_I(Full_Load): 1.20A DC; Parallel_DCR: 0.157 Ohms (Maximum); Series_OCL: 268.32uH ± 20%; Series_L(Full_Load): 141.15uH (Minimum); Series_I(Full_Load): 0.6A DC; Series_DCR: 0.63 Ohms (Maximum); Published: 17-Jul-2002; DatasheetDocument: Jan-2002; PackageDocument: Dec-2001; PackageReference: OPA4; Publisher: Altium Limited; ComponentLink1Description: Manufacturer Link; ComponentLink1URL: http://www.cooperet.com/; ComponentLink2Description: Datasheet; ComponentLink2URL: http://www.cooperet.com/pdfs_html/EconoPacOctaPacOctaPacPlus_Specs.pdf
footprint OPA4 (SM Inductor/Transformer; 4 Leads; Body 11.43 x 11.43 x 6.35 mm (LxWxH))
pins: 1 Pri+, 2 Pri-, 3 Sec-, 4 Sec+

## CTX68-4A
designator T?
Surface Mount 1:1 Transformer, 0.85A RMS Series Current, Octa-Pac Plus; Parallel_OCL: 68.21uH ± 25%; Parallel_I(Sat): 1.61A (Peak); Parallel_I(RMS): 1.70A DC; Parallel_DCR: 0.153 Ohms (Typical @ 20°C); Series_OCL: 272.80uH ± 25%; Series_I(Sat): 0.80uH (Minimum); Series_I(RMS): 0.85A DC; Series_DCR: 0.612 Ohms (Typical @ 20°C); Published: 17-Jul-2002; DatasheetDocument: Dec-2001; PackageDocument: Dec-2001; PackageReference: OPA4; Publisher: Altium Limited; ComponentLink1Description: Manufacturer Link; ComponentLink1URL: http://www.cooperet.com/; ComponentLink2Description: Datasheet; ComponentLink2URL: http://www.cooperet.com/pdfs_html/EconoPacOctaPacOctaPacPlus_Specs.pdf
footprint OPA4 (SM Inductor/Transformer; 4 Leads; Body 11.43 x 11.43 x 6.35 mm (LxWxH))
pins: 1 Pri+, 2 Pri-, 3 Sec-, 4 Sec+

## CTX68-4P
designator T?
Surface Mount 1:1 Transformer, 0.55A DC Series Full Load Current, Econo-Pac; Parallel_OCL: 67.37uH ± 20%; Parallel_L(Full_Load): 43.04uH (Minimum); Parallel_I(Full_Load): 1.10A DC; Parallel_DCR: 0.238 Ohms (Maximum); Series_OCL: 269.50uH ± 20%; Series_L(Full_Load): 172.16uH (Minimum); Series_DCR: 0.952 Ohms (Maximum); Published: 17-Jul-2002; DatasheetDocument: Jan-2002; PackageDocument: Dec-2001; PackageReference: OPA4; Publisher: Altium Limited; Series_I(Full_Load): 0.55A DC; ComponentLink1Description: Manufacturer Link; ComponentLink1URL: http://www.cooperet.com/; ComponentLink2Description: Datasheet; ComponentLink2URL: http://www.cooperet.com/pdfs_html/EconoPacOctaPacOctaPacPlus_Specs.pdf
footprint OPA4 (SM Inductor/Transformer; 4 Leads; Body 11.43 x 11.43 x 6.35 mm (LxWxH))
pins: 1 Pri+, 2 Pri-, 3 Sec-, 4 Sec+

## CTX100-1
designator T?
Surface Mount 1:1 Transformer, 0.22A DC Series Full Load Current, Octa-Pac; Parallel_OCL: 99.23uH ± 20%; Parallel_L(Full_Load): 58.72uH (Minimum); Parallel_I(Full_Load): 0.44A DC; Parallel_DCR: 0.784 Ohms (Maximum); Series_OCL: 396.90uH ± 20%; Series_L(Full_Load): 234.88uH (Minimum); Series_DCR: 3.137 Ohms (Maximum); Published: 17-Jul-2002; DatasheetDocument: Jan-2002; PackageDocument: Dec-2001; PackageReference: OPA1; Publisher: Altium Limited; Series_I(Full_Load): 0.22A DC; ComponentLink1Description: Manufacturer Link; ComponentLink1URL: http://www.cooperet.com/; ComponentLink2Description: Datasheet; ComponentLink2URL: http://www.cooperet.com/pdfs_html/EconoPacOctaPacOctaPacPlus_Specs.pdf
footprint OPA1 (SM Inductor/Transformer; 4 Leads; Body 8.89 x 8.89 x 4.19 mm (LxWxH))
pins: 1 Pri+, 2 Pri-, 3 Sec-, 4 Sec+

## CTX100-1A
designator T?
Surface Mount 1:1 Transformer, 0.37A RMS Series Current, Octa-Pac Plus; Parallel_OCL: 99.45uH ± 25%; Parallel_I(Sat): 0.82A (Peak); Parallel_I(RMS): 0.74A DC; Parallel_DCR: 0.686 Ohms (Typical @ 20°C); Series_OCL: 397.80uH ± 25%; Series_I(Sat): 0.41uH (Minimum); Series_I(RMS): 0.37A DC; Series_DCR: 2.745 Ohms (Typical @ 20°C); Published: 17-Jul-2002; DatasheetDocument: Dec-2001; PackageDocument: Dec-2001; PackageReference: OPA1; Publisher: Altium Limited; ComponentLink1Description: Manufacturer Link; ComponentLink1URL: http://www.cooperet.com/; ComponentLink2Description: Datasheet; ComponentLink2URL: http://www.cooperet.com/pdfs_html/EconoPacOctaPacOctaPacPlus_Specs.pdf
footprint OPA1 (SM Inductor/Transformer; 4 Leads; Body 8.89 x 8.89 x 4.19 mm (LxWxH))
pins: 1 Pri+, 2 Pri-, 3 Sec-, 4 Sec+

## CTX100-1P
designator T?
Surface Mount 1:1 Transformer, 0.27A DC Series Full Load Current, Econo-Pac; Parallel_OCL: 99.01uH ± 20%; Parallel_L(Full_Load): 63.64uH (Minimum); Parallel_I(Full_Load): 0.54A DC; Parallel_DCR: 0.557 Ohms (Maximum); Series_OCL: 396.06uH ± 20%; Series_L(Full_Load): 254.55uH (Minimum); Series_DCR: 2.227 Ohms (Maximum); Published: 17-Jul-2002; DatasheetDocument: Jan-2002; PackageDocument: Dec-2001; PackageReference: OPA1; Publisher: Altium Limited; Series_I(Full_Load): 0.27A DC; ComponentLink1Description: Manufacturer Link; ComponentLink1URL: http://www.cooperet.com/; ComponentLink2Description: Datasheet; ComponentLink2URL: http://www.cooperet.com/pdfs_html/EconoPacOctaPacOctaPacPlus_Specs.pdf
footprint OPA1 (SM Inductor/Transformer; 4 Leads; Body 8.89 x 8.89 x 4.19 mm (LxWxH))
pins: 1 Pri+, 2 Pri-, 3 Sec-, 4 Sec+

## CTX100-2
designator T?
Surface Mount 1:1 Transformer, 0.32A DC Series Full Load Current, Octa-Pac; Parallel_OCL: 99.45uH ± 20%; Parallel_L(Full_Load): 57.45uH (Minimum); Parallel_I(Full_Load): 0.63A DC; Parallel_DCR: 0.457 Ohms (Maximum); Series_OCL: 397.81uH ± 20%; Series_L(Full_Load): 229.79uH (Minimum); Series_DCR: 1.828 Ohms (Maximum); Published: 17-Jul-2002; DatasheetDocument: Jan-2002; PackageDocument: Dec-2001; PackageReference: OPA2; Publisher: Altium Limited; Series_I(Full_Load): 0.32A DC; ComponentLink1Description: Manufacturer Link; ComponentLink1URL: http://www.cooperet.com/; ComponentLink2Description: Datasheet; ComponentLink2URL: http://www.cooperet.com/pdfs_html/EconoPacOctaPacOctaPacPlus_Specs.pdf
footprint OPA2 (SM Inductor/Transformer; 4 Leads; Body 8.89 x 8.89 x 5.97 mm (LxWxH))
pins: 1 Pri+, 2 Pri-, 3 Sec-, 4 Sec+

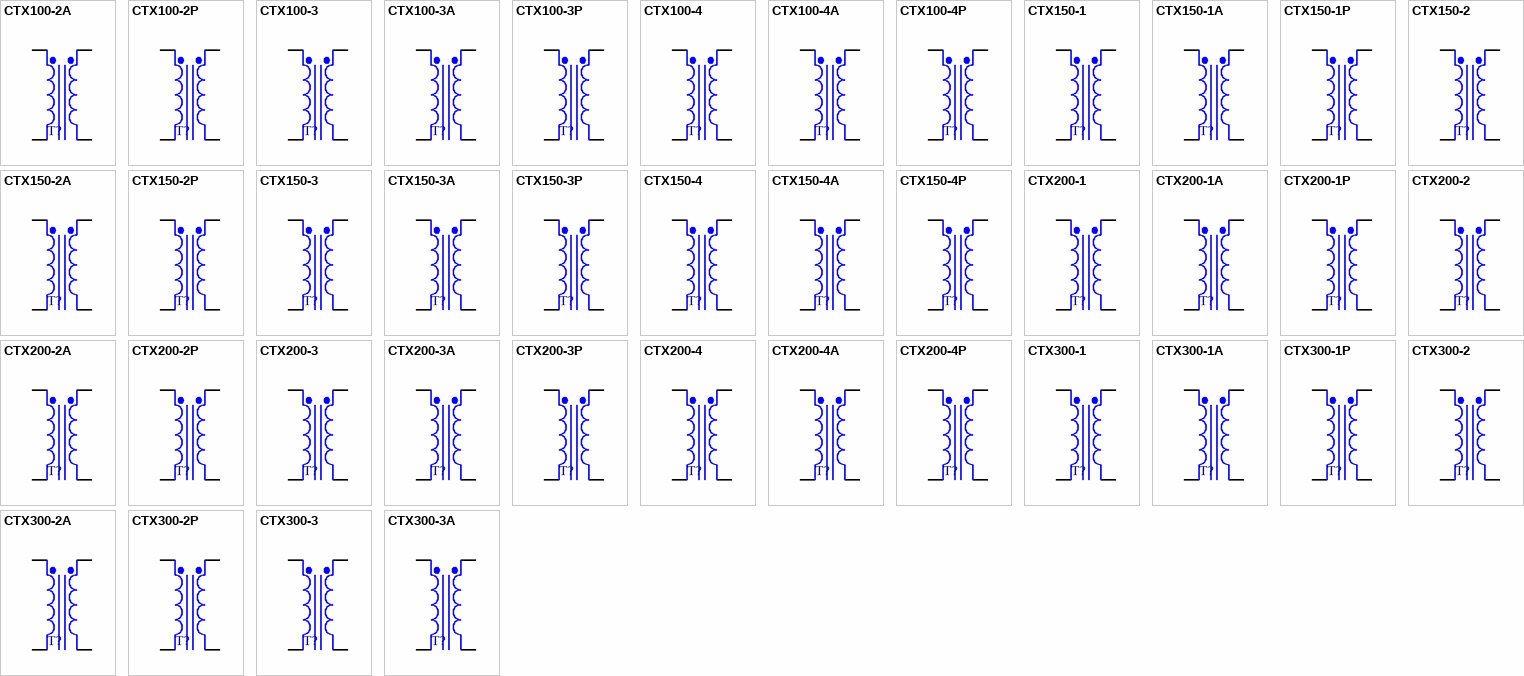
[diagram p4: symbols CTX100-2A to CTX300-3A]

## CTX100-2A
designator T?
Surface Mount 1:1 Transformer, 0.38A RMS Series Current, Octa-Pac Plus; Parallel_OCL: 102.38uH ± 25%; Parallel_I(Sat): 1.04A (Peak); Parallel_I(RMS): 0.75A DC; Parallel_DCR: 0.695 Ohms (Typical @ 20°C); Series_OCL: 409.50uH ± 25%; Series_I(Sat): 0.52uH (Minimum); Series_I(RMS): 0.38A DC; Series_DCR: 2.778 Ohms (Typical @ 20°C); Published: 17-Jul-2002; DatasheetDocument: Dec-2001; PackageDocument: Dec-2001; PackageReference: OPA2; Publisher: Altium Limited; ComponentLink1Description: Manufacturer Link; ComponentLink1URL: http://www.cooperet.com/; ComponentLink2Description: Datasheet; ComponentLink2URL: http://www.cooperet.com/pdfs_html/EconoPacOctaPacOctaPacPlus_Specs.pdf
footprint OPA2 (SM Inductor/Transformer; 4 Leads; Body 8.89 x 8.89 x 5.97 mm (LxWxH))
pins: 1 Pri+, 2 Pri-, 3 Sec-, 4 Sec+

## CTX100-2P
designator T?
Surface Mount 1:1 Transformer, 0.31A DC Series Full Load Current, Econo-Pac; Parallel_OCL: 99.14uH ± 20%; Parallel_L(Full_Load): 69.56uH (Minimum); Parallel_I(Full_Load): 0.62A DC; Parallel_DCR: 0.541 Ohms (Maximum); Series_OCL: 396.58uH ± 20%; Series_L(Full_Load): 278.22uH (Minimum); Series_DCR: 2.162 Ohms (Maximum); Published: 17-Jul-2002; DatasheetDocument: Jan-2002; PackageDocument: Dec-2001; PackageReference: OPA2; Publisher: Altium Limited; Series_I(Full_Load): 0.31A DC; ComponentLink1Description: Manufacturer Link; ComponentLink1URL: http://www.cooperet.com/; ComponentLink2Description: Datasheet; ComponentLink2URL: http://www.cooperet.com/pdfs_html/EconoPacOctaPacOctaPacPlus_Specs.pdf
footprint OPA2 (SM Inductor/Transformer; 4 Leads; Body 8.89 x 8.89 x 5.97 mm (LxWxH))
pins: 1 Pri+, 2 Pri-, 3 Sec-, 4 Sec+

## CTX100-3
designator T?
Surface Mount 1:1 Transformer, 0.35A DC Series Full Load Current, Octa-Pac; Parallel_OCL: 101.40uH ± 20%; Parallel_L(Full_Load): 52.48uH (Minimum); Parallel_I(Full_Load): 0.70A DC; Parallel_DCR: 0.345 Ohms (Maximum); Series_OCL: 405.6uH ± 20%; Series_L(Full_Load): 209.93uH (Minimum); Series_DCR: 1.381 Ohms (Maximum); Published: 17-Jul-2002; DatasheetDocument: Jan-2002; PackageDocument: Dec-2001; PackageReference: OPA3; Publisher: Altium Limited; Series_I(Full_Load): 0.35A DC; ComponentLink1Description: Manufacturer Link; ComponentLink1URL: http://www.cooperet.com/; ComponentLink2Description: Datasheet; ComponentLink2URL: http://www.cooperet.com/pdfs_html/EconoPacOctaPacOctaPacPlus_Specs.pdf
footprint OPA3 (SM Inductor/Transformer; 4 Leads; Body 11.43 x 11.43 x 4.83 mm (LxWxH))
pins: 1 Pri+, 2 Pri-, 3 Sec-, 4 Sec+

## CTX100-3A
designator T?
Surface Mount 1:1 Transformer, 0.53A RMS Series Current, Octa-Pac Plus; Parallel_OCL: 99.07uH ± 25%; Parallel_I(Sat): 0.94A (Peak); Parallel_I(RMS): 1.05A DC; Parallel_DCR: 0.379 Ohms (Typical @ 20°C); Series_OCL: 396.30uH ± 25%; Series_I(Sat): 0.47uH (Minimum); Series_I(RMS): 0.53A DC; Series_DCR: 1.514 Ohms (Typical @ 20°C); Published: 17-Jul-2002; DatasheetDocument: Dec-2001; PackageDocument: Dec-2001; PackageReference: OPA3; Publisher: Altium Limited; ComponentLink1Description: Manufacturer Link; ComponentLink1URL: http://www.cooperet.com/; ComponentLink2Description: Datasheet; ComponentLink2URL: http://www.cooperet.com/pdfs_html/EconoPacOctaPacOctaPacPlus_Specs.pdf
footprint OPA3 (SM Inductor/Transformer; 4 Leads; Body 11.43 x 11.43 x 4.83 mm (LxWxH))
pins: 1 Pri+, 2 Pri-, 3 Sec-, 4 Sec+

## CTX100-3P
designator T?
Surface Mount 1:1 Transformer, 0.34A DC Series Full Load Current, Econo-Pac; Parallel_OCL: 101.31uH ± 20%; Parallel_L(Full_Load): 65.50uH (Minimum); Parallel_I(Full_Load): 0.68A DC; Parallel_DCR: 0.501 Ohms (Maximum); Series_OCL: 405.22uH ± 20%; Series_L(Full_Load): 262.02uH (Minimum); Series_DCR: 2.005 Ohms (Maximum); Published: 17-Jul-2002; DatasheetDocument: Jan-2002; PackageDocument: Dec-2001; PackageReference: OPA3; Publisher: Altium Limited; Series_I(Full_Load): 0.34A DC; ComponentLink1Description: Manufacturer Link; ComponentLink1URL: http://www.cooperet.com/; ComponentLink2Description: Datasheet; ComponentLink2URL: http://www.cooperet.com/pdfs_html/EconoPacOctaPacOctaPacPlus_Specs.pdf
footprint OPA3 (SM Inductor/Transformer; 4 Leads; Body 11.43 x 11.43 x 4.83 mm (LxWxH))
pins: 1 Pri+, 2 Pri-, 3 Sec-, 4 Sec+

## CTX100-4
designator T?
Surface Mount 1:1 Transformer, 0.46A DC Series Full Load Current, Octa-Pac; Parallel_OCL: 99.23uH ± 20%; Parallel_L(Full_Load): 54.56uH (Minimum); Parallel_I(Full_Load): 0.92A DC; Parallel_DCR: 0.302 Ohms (Maximum); Series_OCL: 396.90uH ± 20%; Series_L(Full_Load): 218.25uH (Minimum); Series_DCR: 1.21 Ohms (Maximum); Published: 17-Jul-2002; DatasheetDocument: Jan-2002; PackageDocument: Dec-2001; PackageReference: OPA4; Publisher: Altium Limited; Series_I(Full_Load): 0.46A DC; ComponentLink1Description: Manufacturer Link; ComponentLink1URL: http://www.cooperet.com/; ComponentLink2Description: Datasheet; ComponentLink2URL: http://www.cooperet.com/pdfs_html/EconoPacOctaPacOctaPacPlus_Specs.pdf
footprint OPA4 (SM Inductor/Transformer; 4 Leads; Body 11.43 x 11.43 x 6.35 mm (LxWxH))
pins: 1 Pri+, 2 Pri-, 3 Sec-, 4 Sec+

## CTX100-4A
designator T?
Surface Mount 1:1 Transformer, 0.69A RMS Series Current, Octa-Pac Plus; Parallel_OCL: 100.57uH ± 25%; Parallel_I(Sat): 1.32A (Peak); Parallel_I(RMS): 1.37A DC; Parallel_DCR: 0.235 Ohms (Typical @ 20°C); Series_OCL: 402.30uH ± 25%; Series_I(Sat): 0.66uH (Minimum); Series_I(RMS): 0.69A DC; Series_DCR: 0.939 Ohms (Typical @ 20°C); Published: 17-Jul-2002; DatasheetDocument: Dec-2001; PackageDocument: Dec-2001; PackageReference: OPA4; Publisher: Altium Limited; ComponentLink1Description: Manufacturer Link; ComponentLink1URL: http://www.cooperet.com/; ComponentLink2Description: Datasheet; ComponentLink2URL: http://www.cooperet.com/pdfs_html/EconoPacOctaPacOctaPacPlus_Specs.pdf
footprint OPA4 (SM Inductor/Transformer; 4 Leads; Body 11.43 x 11.43 x 6.35 mm (LxWxH))
pins: 1 Pri+, 2 Pri-, 3 Sec-, 4 Sec+

## CTX100-4P
designator T?
Surface Mount 1:1 Transformer, 0.36A DC Series Full Load Current, Econo-Pac; Parallel_OCL: 99.09uH ± 20%; Parallel_L(Full_Load): 69.54uH (Minimum); Parallel_I(Full_Load): 0.72A DC; Parallel_DCR: 0.565 Ohms (Maximum); Series_OCL: 396.38uH ± 20%; Series_L(Full_Load): 278.15uH (Minimum); Series_DCR: 2.259 Ohms (Maximum); Published: 17-Jul-2002; DatasheetDocument: Jan-2002; PackageDocument: Dec-2001; PackageReference: OPA4; Publisher: Altium Limited; Series_I(Full_Load): 0.36A DC; ComponentLink1Description: Manufacturer Link; ComponentLink1URL: http://www.cooperet.com/; ComponentLink2Description: Datasheet; ComponentLink2URL: http://www.cooperet.com/pdfs_html/EconoPacOctaPacOctaPacPlus_Specs.pdf
footprint OPA4 (SM Inductor/Transformer; 4 Leads; Body 11.43 x 11.43 x 6.35 mm (LxWxH))
pins: 1 Pri+, 2 Pri-, 3 Sec-, 4 Sec+

## CTX150-1
designator T?
Surface Mount 1:1 Transformer, 0.19A DC Series Full Load Current, Octa-Pac; Parallel_OCL: 148.23uH ± 20%; Parallel_L(Full_Load): 85.16uH (Minimum); Parallel_I(Full_Load): 0.38A DC; Parallel_DCR: 0.965 Ohms (Maximum); Series_OCL: 592.90uH ± 20%; Series_L(Full_Load): 340.64uH (Minimum); Series_DCR: 3.861 Ohms (Maximum); Published: 17-Jul-2002; DatasheetDocument: Jan-2002; PackageDocument: Dec-2001; PackageReference: OPA1; Publisher: Altium Limited; Series_I(Full_Load): 0.19A DC; ComponentLink1Description: Manufacturer Link; ComponentLink1URL: http://www.cooperet.com/; ComponentLink2Description: Datasheet; ComponentLink2URL: http://www.cooperet.com/pdfs_html/EconoPacOctaPacOctaPacPlus_Specs.pdf
footprint OPA1 (SM Inductor/Transformer; 4 Leads; Body 8.89 x 8.89 x 4.19 mm (LxWxH))
pins: 1 Pri+, 2 Pri-, 3 Sec-, 4 Sec+

## CTX150-1A
designator T?
Surface Mount 1:1 Transformer, 0.33A RMS Series Current, Octa-Pac Plus; Parallel_OCL: 147.40uH ± 25%; Parallel_I(Sat): 0.67A (Peak); Parallel_I(RMS): 0.67A DC; Parallel_DCR: 0.832 Ohms (Typical @ 20°C); Series_OCL: 589.60uH ± 25%; Series_I(Sat): 0.33uH (Minimum); Series_I(RMS): 0.33A DC; Series_DCR: 3.329 Ohms (Typical @ 20°C); Published: 17-Jul-2002; DatasheetDocument: Dec-2001; PackageDocument: Dec-2001; PackageReference: OPA1; Publisher: Altium Limited; ComponentLink1Description: Manufacturer Link; ComponentLink1URL: http://www.cooperet.com/; ComponentLink2Description: Datasheet; ComponentLink2URL: http://www.cooperet.com/pdfs_html/EconoPacOctaPacOctaPacPlus_Specs.pdf
footprint OPA1 (SM Inductor/Transformer; 4 Leads; Body 8.89 x 8.89 x 4.19 mm (LxWxH))
pins: 1 Pri+, 2 Pri-, 3 Sec-, 4 Sec+

## CTX150-1P
designator T?
Surface Mount 1:1 Transformer, 0.22A DC Series Full Load Current, Econo-Pac; Parallel_OCL: 150.72uH ± 20%; Parallel_L(Full_Load): 96.64uH (Minimum); Parallel_I(Full_Load): 0.44A DC; Parallel_DCR: 0.844 Ohms (Maximum); Series_OCL: 602.87uH ± 20%; Series_L(Full_Load): 386.56uH (Minimum); Series_DCR: 3.376 Ohms (Maximum); Published: 17-Jul-2002; DatasheetDocument: Jan-2002; PackageDocument: Dec-2001; PackageReference: OPA1; Publisher: Altium Limited; Series_I(Full_Load): 0.22A DC; ComponentLink1Description: Manufacturer Link; ComponentLink1URL: http://www.cooperet.com/; ComponentLink2Description: Datasheet; ComponentLink2URL: http://www.cooperet.com/pdfs_html/EconoPacOctaPacOctaPacPlus_Specs.pdf
footprint OPA1 (SM Inductor/Transformer; 4 Leads; Body 8.89 x 8.89 x 4.19 mm (LxWxH))
pins: 1 Pri+, 2 Pri-, 3 Sec-, 4 Sec+

## CTX150-2
designator T?
Surface Mount 1:1 Transformer, 0.22A DC Series Full Load Current, Octa-Pac; Parallel_OCL: 147.39uH ± 20%; Parallel_L(Full_Load): 93.46uH (Minimum); Parallel_I(Full_Load): 0.43A DC; Parallel_DCR: 0.56 Ohms (Maximum); Series_OCL: 589.57uH ± 20%; Series_L(Full_Load): 373.84uH (Minimum); Series_DCR: 2.241 Ohms (Maximum); Published: 17-Jul-2002; DatasheetDocument: Jan-2002; PackageDocument: Dec-2001; PackageReference: OPA2; Publisher: Altium Limited; Series_I(Full_Load): 0.22A DC; ComponentLink1Description: Manufacturer Link; ComponentLink1URL: http://www.cooperet.com/; ComponentLink2Description: Datasheet; ComponentLink2URL: http://www.cooperet.com/pdfs_html/EconoPacOctaPacOctaPacPlus_Specs.pdf
footprint OPA2 (SM Inductor/Transformer; 4 Leads; Body 8.89 x 8.89 x 5.97 mm (LxWxH))
pins: 1 Pri+, 2 Pri-, 3 Sec-, 4 Sec+

## CTX150-2A
designator T?
Surface Mount 1:1 Transformer, 0.34A RMS Series Current, Octa-Pac Plus; Parallel_OCL: 152.90uH ± 25%; Parallel_I(Sat): 0.85A (Peak); Parallel_I(RMS): 0.68A DC; Parallel_DCR: 0.842 Ohms (Typical @ 20°C); Series_OCL: 611.80uH ± 25%; Series_I(Sat): 0.43uH (Minimum); Series_I(RMS): 0.34A DC; Series_DCR: 3.366 Ohms (Typical @ 20°C); Published: 17-Jul-2002; DatasheetDocument: Dec-2001; PackageDocument: Dec-2001; PackageReference: OPA2; Publisher: Altium Limited; ComponentLink1Description: Manufacturer Link; ComponentLink1URL: http://www.cooperet.com/; ComponentLink2Description: Datasheet; ComponentLink2URL: http://www.cooperet.com/pdfs_html/EconoPacOctaPacOctaPacPlus_Specs.pdf
footprint OPA2 (SM Inductor/Transformer; 4 Leads; Body 8.89 x 8.89 x 5.97 mm (LxWxH))
pins: 1 Pri+, 2 Pri-, 3 Sec-, 4 Sec+

## CTX150-2P
designator T?
Surface Mount 1:1 Transformer, 0.28A DC Series Full Load Current, Econo-Pac; Parallel_OCL: 148.10uH ± 20%; Parallel_L(Full_Load): 100.07uH (Minimum); Parallel_I(Full_Load): 0.56A DC; Parallel_DCR: 0.665 Ohms (Maximum); Series_OCL: 592.42uH ± 20%; Series_L(Full_Load): 400.27uH (Minimum); Series_DCR: 2.66 Ohms (Maximum); Published: 17-Jul-2002; DatasheetDocument: Jan-2002; PackageDocument: Dec-2001; PackageReference: OPA2; Publisher: Altium Limited; Series_I(Full_Load): 0.28A DC; ComponentLink1Description: Manufacturer Link; ComponentLink1URL: http://www.cooperet.com/; ComponentLink2Description: Datasheet; ComponentLink2URL: http://www.cooperet.com/pdfs_html/EconoPacOctaPacOctaPacPlus_Specs.pdf
footprint OPA2 (SM Inductor/Transformer; 4 Leads; Body 8.89 x 8.89 x 5.97 mm (LxWxH))
pins: 1 Pri+, 2 Pri-, 3 Sec-, 4 Sec+

## CTX150-3
designator T?
Surface Mount 1:1 Transformer, 0.19A DC Series Full Load Current, Octa-Pac; Parallel_OCL: 149.78uH ± 20%; Parallel_L(Full_Load): 97.16uH (Minimum); Parallel_I(Full_Load): 0.38A DC; Parallel_DCR: 0.43 Ohms (Maximum); Series_OCL: 599.14uH ± 20%; Series_L(Full_Load): 388.63uH (Minimum); Series_DCR: 1.718 Ohms (Maximum); Published: 17-Jul-2002; DatasheetDocument: Jan-2002; PackageDocument: Dec-2001; PackageReference: OPA3; Publisher: Altium Limited; Series_I(Full_Load): 0.19A DC; ComponentLink1Description: Manufacturer Link; ComponentLink1URL: http://www.cooperet.com/; ComponentLink2Description: Datasheet; ComponentLink2URL: http://www.cooperet.com/pdfs_html/EconoPacOctaPacOctaPacPlus_Specs.pdf
footprint OPA3 (SM Inductor/Transformer; 4 Leads; Body 11.43 x 11.43 x 4.83 mm (LxWxH))
pins: 1 Pri+, 2 Pri-, 3 Sec-, 4 Sec+

## CTX150-3A
designator T?
Surface Mount 1:1 Transformer, 0.43A RMS Series Current, Octa-Pac Plus; Parallel_OCL: 149.70uH ± 25%; Parallel_I(Sat): 0.76A (Peak); Parallel_I(RMS): 0.86A DC; Parallel_DCR: 0.571 Ohms (Typical @ 20°C); Series_OCL: 598.70uH ± 25%; Series_I(Sat): 0.38uH (Minimum); Series_I(RMS): 0.43A DC; Series_DCR: 2.283 Ohms (Typical @ 20°C); Published: 17-Jul-2002; DatasheetDocument: Dec-2001; PackageDocument: Dec-2001; PackageReference: OPA3; Publisher: Altium Limited; ComponentLink1Description: Manufacturer Link; ComponentLink1URL: http://www.cooperet.com/; ComponentLink2Description: Datasheet; ComponentLink2URL: http://www.cooperet.com/pdfs_html/EconoPacOctaPacOctaPacPlus_Specs.pdf
footprint OPA3 (SM Inductor/Transformer; 4 Leads; Body 11.43 x 11.43 x 4.83 mm (LxWxH))
pins: 1 Pri+, 2 Pri-, 3 Sec-, 4 Sec+

## CTX150-3P
designator T?
Surface Mount 1:1 Transformer, 0.32A DC Series Full Load Current, Econo-Pac; Parallel_OCL: 149.85uH ± 20%; Parallel_L(Full_Load): 90.92uH (Minimum); Parallel_I(Full_Load): 0.64A DC; Parallel_DCR: 0.621 Ohms (Maximum); Series_OCL: 599.40uH ± 20%; Series_L(Full_Load): 363.68uH (Minimum); Series_DCR: 2.483 Ohms (Maximum); Published: 17-Jul-2002; DatasheetDocument: Jan-2002; PackageDocument: Dec-2001; PackageReference: OPA3; Publisher: Altium Limited; Series_I(Full_Load): 0.32A DC; ComponentLink1Description: Manufacturer Link; ComponentLink1URL: http://www.cooperet.com/; ComponentLink2Description: Datasheet; ComponentLink2URL: http://www.cooperet.com/pdfs_html/EconoPacOctaPacOctaPacPlus_Specs.pdf
footprint OPA3 (SM Inductor/Transformer; 4 Leads; Body 11.43 x 11.43 x 4.83 mm (LxWxH))
pins: 1 Pri+, 2 Pri-, 3 Sec-, 4 Sec+